# Altium integrated library Maxim Memory.IntLib: 366 symbols (part 2 of 7)
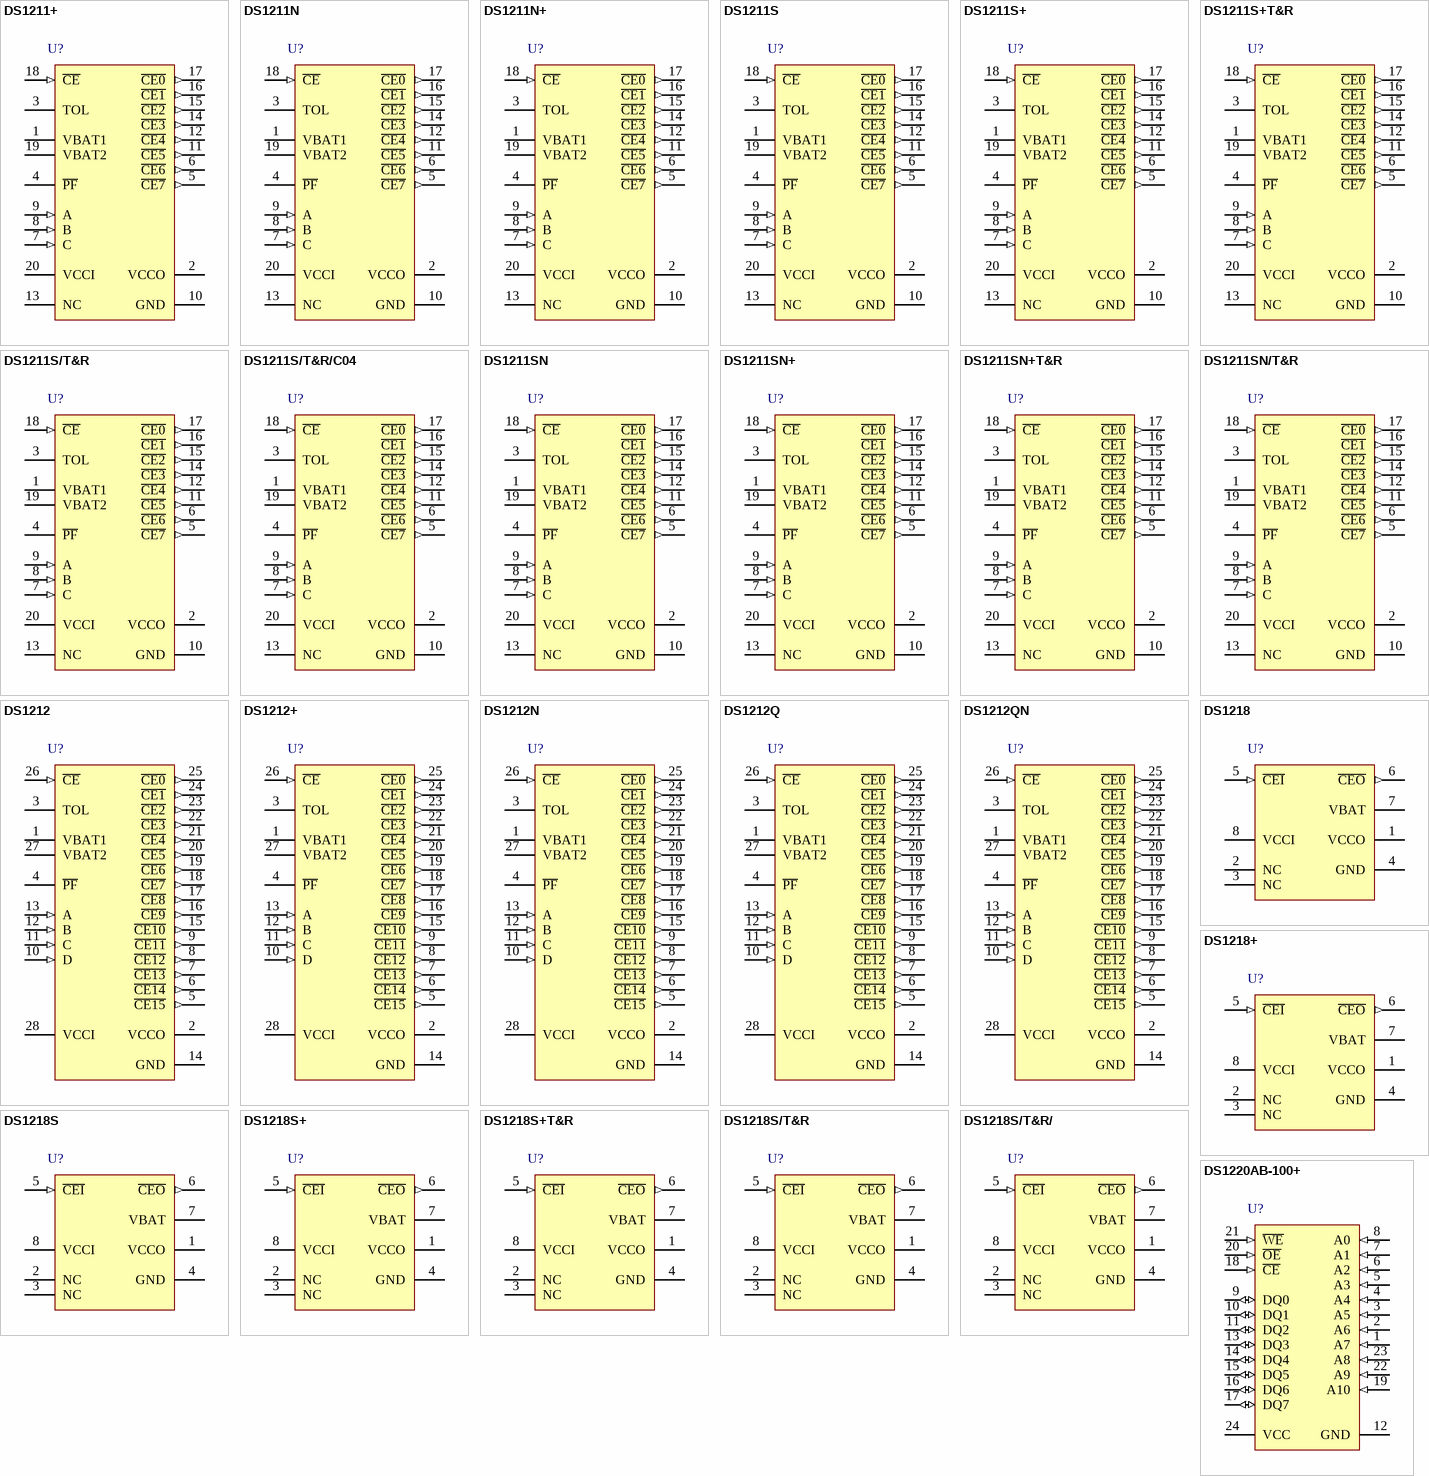
[diagram p14: symbols DS1211+ to DS1220AB-100+]

## DS1218S
designator U?
Nonvolatile Controller, 8-pin SOIC, 0° to + 70° C; DatasheetVersion: 1/11/1999; PackageVersion: revC, 2010; PackageReference: S8-2; PackageDescription: 8-Pin Small-Outline IC, Narrow (0.15in), 1.27 mm Pitch, SOIC (N); Code_JEDEC: MS-012-AA; Code_IPC: SOIC127P600-8; ComponentLink1Description: Manufacturer URL; ComponentLink1URL: www.maxim-ic.com; ComponentLink2Description: Datasheet; ComponentLink2URL: http://datasheets.maxim-ic.com/en/ds/DS1218.pdf
footprint S8-2_N (SOIC, 8-Leads, Body 4.9x3.9mm, Pitch 1.27mm, IPC Medium Density)
footprint S8-2_L (SOIC, 8-Leads, Body 4.9x3.9mm, Pitch 1.27mm, IPC High Density)
footprint S8-2_M (SOIC, 8-Leads, Body 4.9x3.9mm, Pitch 1.27mm, IPC Low Density)
pins: 1 VCCO (power), 2 NC, 3 NC, 4 GND (power), 5 ~{CEI} (in), 6 ~{CEO} (out), 7 VBAT, 8 VCCI (power)

## DS1218S+
designator U?
Nonvolatile Controller, 8-pin SOIC, 0° to + 70° C, Pb-Free; DatasheetVersion: 1/11/1999; PackageVersion: revC, 2010; PackageReference: S8+2; PackageDescription: 8-Pin Small-Outline IC, Narrow (0.15in), 1.27 mm Pitch, SOIC (N), Pb-Free; Code_JEDEC: MS-012-AA; Code_IPC: SOIC127P600-8; ComponentLink1Description: Manufacturer URL; ComponentLink1URL: www.maxim-ic.com; ComponentLink2Description: Datasheet; ComponentLink2URL: http://datasheets.maxim-ic.com/en/ds/DS1218.pdf
footprint S8+2_N (SOIC, 8-Leads, Body 4.9x3.9mm, Pitch 1.27mm, IPC Medium Density)
footprint S8+2_L (SOIC, 8-Leads, Body 4.9x3.9mm, Pitch 1.27mm, IPC High Density)
footprint S8+2_M (SOIC, 8-Leads, Body 4.9x3.9mm, Pitch 1.27mm, IPC Low Density)
pins: 1 VCCO (power), 2 NC, 3 NC, 4 GND (power), 5 ~{CEI} (in), 6 ~{CEO} (out), 7 VBAT, 8 VCCI (power)

## DS1218S+T&R
designator U?
Nonvolatile Controller, 8-pin SOIC, 0° to + 70° C, Pb-Free, Tape and Reel; DatasheetVersion: 1/11/1999; PackageVersion: revC, 2010; PackageReference: S8+2; PackageDescription: 8-Pin Small-Outline IC, Narrow (0.15in), 1.27 mm Pitch, SOIC (N), Pb-Free; Code_JEDEC: MS-012-AA; Code_IPC: SOIC127P600-8; ComponentLink1Description: Manufacturer URL; ComponentLink1URL: www.maxim-ic.com; ComponentLink2Description: Datasheet; ComponentLink2URL: http://datasheets.maxim-ic.com/en/ds/DS1218.pdf
footprint S8+2_N (SOIC, 8-Leads, Body 4.9x3.9mm, Pitch 1.27mm, IPC Medium Density)
footprint S8+2_L (SOIC, 8-Leads, Body 4.9x3.9mm, Pitch 1.27mm, IPC High Density)
footprint S8+2_M (SOIC, 8-Leads, Body 4.9x3.9mm, Pitch 1.27mm, IPC Low Density)
pins: 1 VCCO (power), 2 NC, 3 NC, 4 GND (power), 5 ~{CEI} (in), 6 ~{CEO} (out), 7 VBAT, 8 VCCI (power)

## DS1218S/T&R
designator U?
Nonvolatile Controller, 8-pin SOIC, 0° to + 70° C, Tape and Reel; DatasheetVersion: 1/11/1999; PackageVersion: revC, 2010; PackageReference: S8-2; PackageDescription: 8-Pin Small-Outline IC, Narrow (0.15in), 1.27 mm Pitch, SOIC (N); Code_JEDEC: MS-012-AA; Code_IPC: SOIC127P600-8; ComponentLink1Description: Manufacturer URL; ComponentLink1URL: www.maxim-ic.com; ComponentLink2Description: Datasheet; ComponentLink2URL: http://datasheets.maxim-ic.com/en/ds/DS1218.pdf
footprint S8-2_N (SOIC, 8-Leads, Body 4.9x3.9mm, Pitch 1.27mm, IPC Medium Density)
footprint S8-2_L (SOIC, 8-Leads, Body 4.9x3.9mm, Pitch 1.27mm, IPC High Density)
footprint S8-2_M (SOIC, 8-Leads, Body 4.9x3.9mm, Pitch 1.27mm, IPC Low Density)
pins: 1 VCCO (power), 2 NC, 3 NC, 4 GND (power), 5 ~{CEI} (in), 6 ~{CEO} (out), 7 VBAT, 8 VCCI (power)

## DS1218S/T&R/
designator U?
Nonvolatile Controller, 8-pin SOIC, 0° to + 70° C, Tape and Reel; DatasheetVersion: 1/11/1999; PackageVersion: revC, 2010; PackageReference: S8-2; PackageDescription: 8-Pin Small-Outline IC, Narrow (0.15in), 1.27 mm Pitch, SOIC (N); Code_JEDEC: MS-012-AA; Code_IPC: SOIC127P600-8; ComponentLink1Description: Manufacturer URL; ComponentLink1URL: www.maxim-ic.com; ComponentLink2Description: Datasheet; ComponentLink2URL: http://datasheets.maxim-ic.com/en/ds/DS1218.pdf
footprint S8-2_N (SOIC, 8-Leads, Body 4.9x3.9mm, Pitch 1.27mm, IPC Medium Density)
footprint S8-2_L (SOIC, 8-Leads, Body 4.9x3.9mm, Pitch 1.27mm, IPC High Density)
footprint S8-2_M (SOIC, 8-Leads, Body 4.9x3.9mm, Pitch 1.27mm, IPC Low Density)
pins: 1 VCCO (power), 2 NC, 3 NC, 4 GND (power), 5 ~{CEI} (in), 6 ~{CEO} (out), 7 VBAT, 8 VCCI (power)

## DS1220AB-100+
designator U?
16Kb Nonvolatile SRAM, +/-5% VCC Operating range, 24-pin EDIP, 0° to + 70° C, Pb-Free; DatasheetVersion: 1/10/2010; PackageVersion: revA, Feb-2003; PackageReference: MDT24+1; PackageDescription: 24-Pin Encapsulated Dual-In-Line Module, 2.54 mm Pitch, EDIP, Pb-Free; ComponentLink1Description: Manufacturer URL; ComponentLink1URL: www.maxim-ic.com; ComponentLink2Description: Datasheet; ComponentLink2URL: http://datasheets.maxim-ic.com/en/ds/DS1220AB-DS1220AD.pdf
footprint MDT24+1 (DIP; 24 Rectangular Pins, Body 33x17.8mm, Row Space 15.24mm, Pitch 2.54mm)
pins: 1 A7 (in), 2 A6 (in), 3 A5 (in), 4 A4 (in), 5 A3 (in), 6 A2 (in), 7 A1 (in), 8 A0 (in), 9 DQ0 (io), 10 DQ1 (io), 11 DQ2 (io), 12 GND (power), 13 DQ3 (io), 14 DQ4 (io), 15 DQ5 (io), 16 DQ6 (io), 17 DQ7 (io), 18 ~{CE} (in), 19 A10 (in), 20 ~{OE} (in), 21 ~{WE} (in), 22 A9 (in), 23 A8 (in), 24 VCC (power)

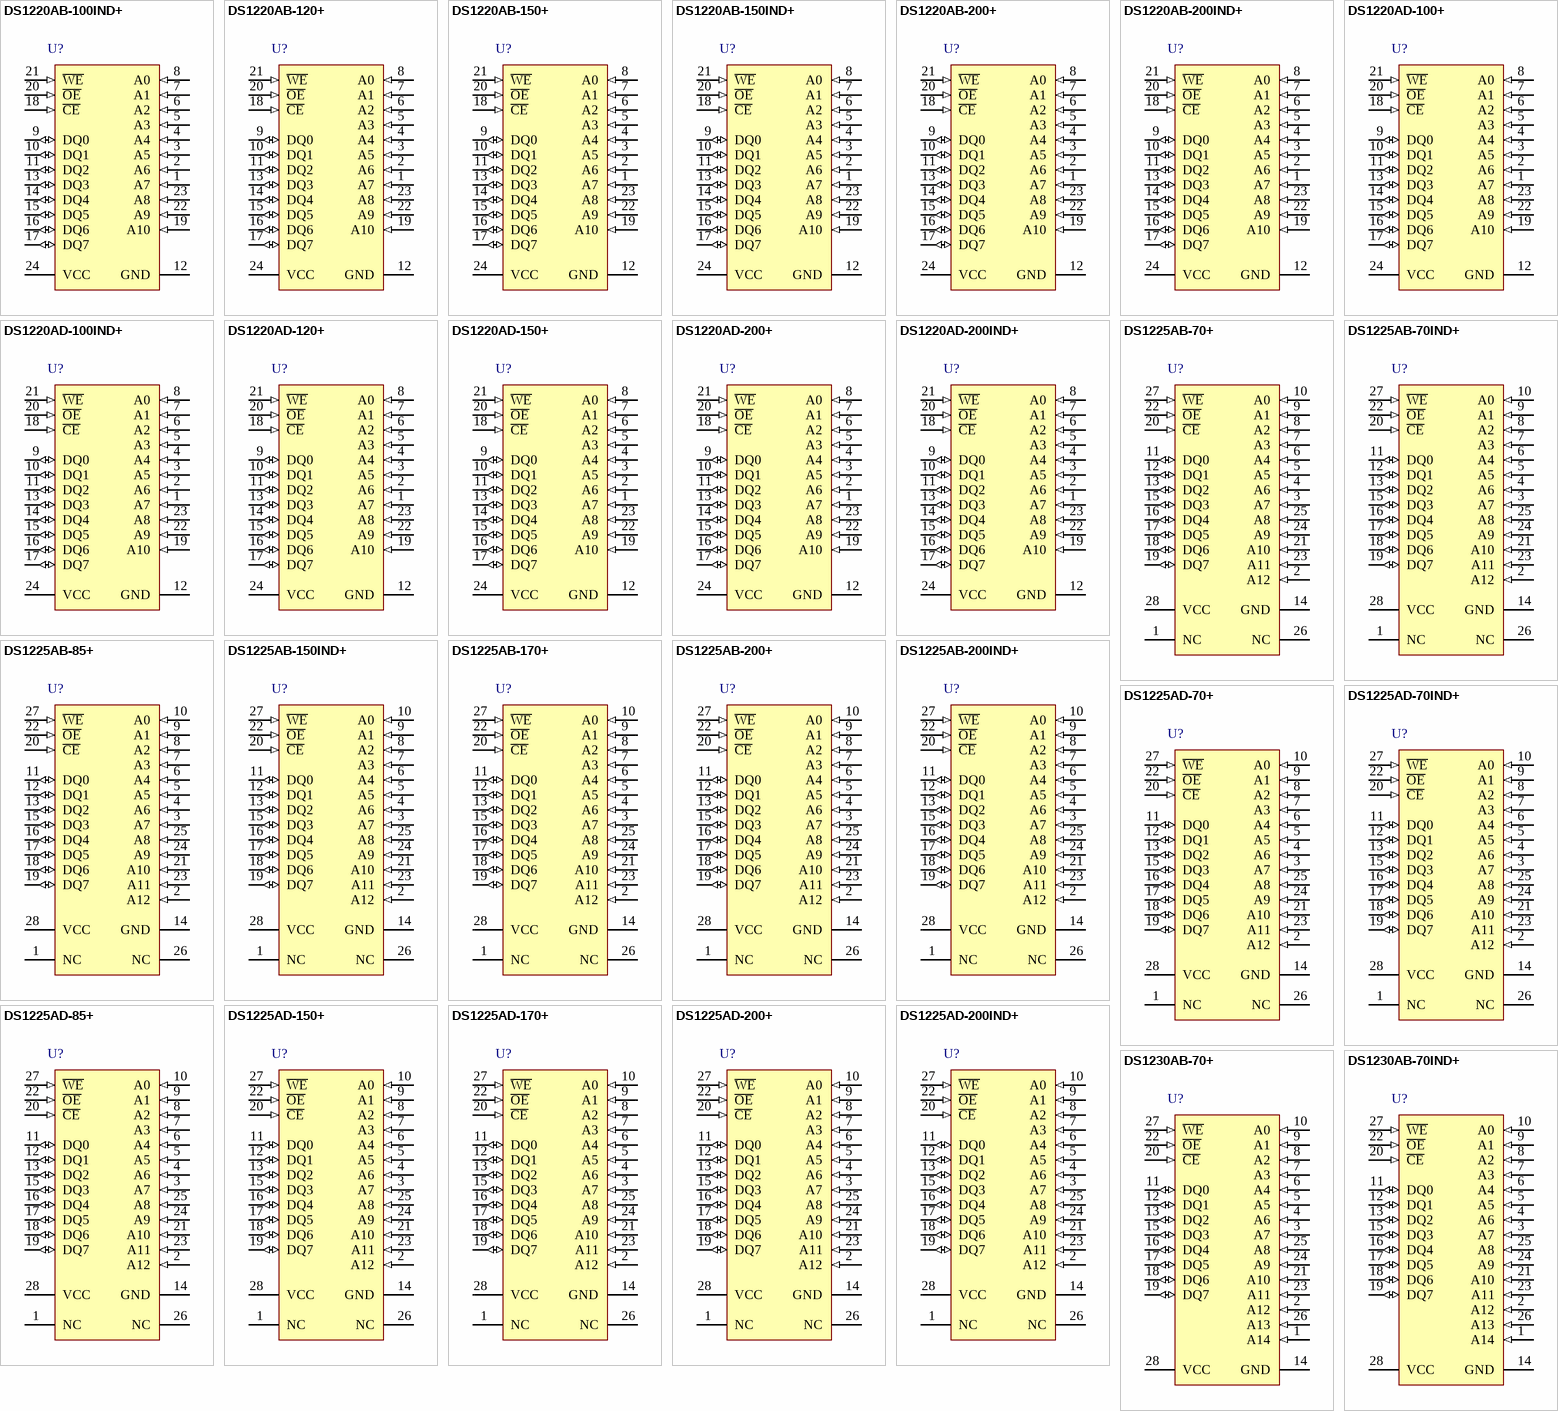
[diagram p2: symbols DS1220AB-100IND+ to DS1230AB-70IND+]

## DS1220AB-100IND+
designator U?
16Kb Nonvolatile SRAM, +/-5% VCC Operating range, 24-pin EDIP, -40° to + 85° C, Pb-Free; DatasheetVersion: 1/10/2010; PackageVersion: revA, Feb-2003; PackageReference: MDT24+1; PackageDescription: 24-Pin Encapsulated Dual-In-Line Module, 2.54 mm Pitch, EDIP, Pb-Free; ComponentLink1Description: Manufacturer URL; ComponentLink1URL: www.maxim-ic.com; ComponentLink2Description: Datasheet; ComponentLink2URL: http://datasheets.maxim-ic.com/en/ds/DS1220AB-DS1220AD.pdf
footprint MDT24+1 (DIP; 24 Rectangular Pins, Body 33x17.8mm, Row Space 15.24mm, Pitch 2.54mm)
pins: 1 A7 (in), 2 A6 (in), 3 A5 (in), 4 A4 (in), 5 A3 (in), 6 A2 (in), 7 A1 (in), 8 A0 (in), 9 DQ0 (io), 10 DQ1 (io), 11 DQ2 (io), 12 GND (power), 13 DQ3 (io), 14 DQ4 (io), 15 DQ5 (io), 16 DQ6 (io), 17 DQ7 (io), 18 ~{CE} (in), 19 A10 (in), 20 ~{OE} (in), 21 ~{WE} (in), 22 A9 (in), 23 A8 (in), 24 VCC (power)

## DS1220AB-120+
designator U?
16Kb Nonvolatile SRAM, +/-5% VCC Operating range, 24-pin EDIP, 0° to + 70° C, Pb-Free; DatasheetVersion: 1/10/2010; PackageVersion: revA, Feb-2003; PackageReference: MDT24+1; PackageDescription: 24-Pin Encapsulated Dual-In-Line Module, 2.54 mm Pitch, EDIP, Pb-Free; ComponentLink1Description: Manufacturer URL; ComponentLink1URL: www.maxim-ic.com; ComponentLink2Description: Datasheet; ComponentLink2URL: http://datasheets.maxim-ic.com/en/ds/DS1220AB-DS1220AD.pdf
footprint MDT24+1 (DIP; 24 Rectangular Pins, Body 33x17.8mm, Row Space 15.24mm, Pitch 2.54mm)
pins: 1 A7 (in), 2 A6 (in), 3 A5 (in), 4 A4 (in), 5 A3 (in), 6 A2 (in), 7 A1 (in), 8 A0 (in), 9 DQ0 (io), 10 DQ1 (io), 11 DQ2 (io), 12 GND (power), 13 DQ3 (io), 14 DQ4 (io), 15 DQ5 (io), 16 DQ6 (io), 17 DQ7 (io), 18 ~{CE} (in), 19 A10 (in), 20 ~{OE} (in), 21 ~{WE} (in), 22 A9 (in), 23 A8 (in), 24 VCC (power)

## DS1220AB-150+
designator U?
16Kb Nonvolatile SRAM, +/-5% VCC Operating range, 24-pin EDIP, 0° to + 70° C, Pb-Free; DatasheetVersion: 1/10/2010; PackageVersion: revA, Feb-2003; PackageReference: MDT24+1; PackageDescription: 24-Pin Encapsulated Dual-In-Line Module, 2.54 mm Pitch, EDIP, Pb-Free; ComponentLink1Description: Manufacturer URL; ComponentLink1URL: www.maxim-ic.com; ComponentLink2Description: Datasheet; ComponentLink2URL: http://datasheets.maxim-ic.com/en/ds/DS1220AB-DS1220AD.pdf
footprint MDT24+1 (DIP; 24 Rectangular Pins, Body 33x17.8mm, Row Space 15.24mm, Pitch 2.54mm)
pins: 1 A7 (in), 2 A6 (in), 3 A5 (in), 4 A4 (in), 5 A3 (in), 6 A2 (in), 7 A1 (in), 8 A0 (in), 9 DQ0 (io), 10 DQ1 (io), 11 DQ2 (io), 12 GND (power), 13 DQ3 (io), 14 DQ4 (io), 15 DQ5 (io), 16 DQ6 (io), 17 DQ7 (io), 18 ~{CE} (in), 19 A10 (in), 20 ~{OE} (in), 21 ~{WE} (in), 22 A9 (in), 23 A8 (in), 24 VCC (power)

## DS1220AB-150IND+
designator U?
16Kb Nonvolatile SRAM, +/-5% VCC Operating range, 24-pin EDIP, -40° to + 85° C, Pb-Free; DatasheetVersion: 1/10/2010; PackageVersion: revA, Feb-2003; PackageReference: MDT24+1; PackageDescription: 24-Pin Encapsulated Dual-In-Line Module, 2.54 mm Pitch, EDIP, Pb-Free; ComponentLink1Description: Manufacturer URL; ComponentLink1URL: www.maxim-ic.com; ComponentLink2Description: Datasheet; ComponentLink2URL: http://datasheets.maxim-ic.com/en/ds/DS1220AB-DS1220AD.pdf
footprint MDT24+1 (DIP; 24 Rectangular Pins, Body 33x17.8mm, Row Space 15.24mm, Pitch 2.54mm)
pins: 1 A7 (in), 2 A6 (in), 3 A5 (in), 4 A4 (in), 5 A3 (in), 6 A2 (in), 7 A1 (in), 8 A0 (in), 9 DQ0 (io), 10 DQ1 (io), 11 DQ2 (io), 12 GND (power), 13 DQ3 (io), 14 DQ4 (io), 15 DQ5 (io), 16 DQ6 (io), 17 DQ7 (io), 18 ~{CE} (in), 19 A10 (in), 20 ~{OE} (in), 21 ~{WE} (in), 22 A9 (in), 23 A8 (in), 24 VCC (power)

## DS1220AB-200+
designator U?
16Kb Nonvolatile SRAM, +/-5% VCC Operating range, 24-pin EDIP, 0° to + 70° C, Pb-Free; DatasheetVersion: 1/10/2010; PackageVersion: revA, Feb-2003; PackageReference: MDT24+1; PackageDescription: 24-Pin Encapsulated Dual-In-Line Module, 2.54 mm Pitch, EDIP, Pb-Free; ComponentLink1Description: Manufacturer URL; ComponentLink1URL: www.maxim-ic.com; ComponentLink2Description: Datasheet; ComponentLink2URL: http://datasheets.maxim-ic.com/en/ds/DS1220AB-DS1220AD.pdf
footprint MDT24+1 (DIP; 24 Rectangular Pins, Body 33x17.8mm, Row Space 15.24mm, Pitch 2.54mm)
pins: 1 A7 (in), 2 A6 (in), 3 A5 (in), 4 A4 (in), 5 A3 (in), 6 A2 (in), 7 A1 (in), 8 A0 (in), 9 DQ0 (io), 10 DQ1 (io), 11 DQ2 (io), 12 GND (power), 13 DQ3 (io), 14 DQ4 (io), 15 DQ5 (io), 16 DQ6 (io), 17 DQ7 (io), 18 ~{CE} (in), 19 A10 (in), 20 ~{OE} (in), 21 ~{WE} (in), 22 A9 (in), 23 A8 (in), 24 VCC (power)

## DS1220AB-200IND+
designator U?
16Kb Nonvolatile SRAM, +/-5% VCC Operating range, 24-pin EDIP, -40° to + 85° C, Pb-Free; DatasheetVersion: 1/10/2010; PackageVersion: revA, Feb-2003; PackageReference: MDT24+1; PackageDescription: 24-Pin Encapsulated Dual-In-Line Module, 2.54 mm Pitch, EDIP, Pb-Free; ComponentLink1Description: Manufacturer URL; ComponentLink1URL: www.maxim-ic.com; ComponentLink2Description: Datasheet; ComponentLink2URL: http://datasheets.maxim-ic.com/en/ds/DS1220AB-DS1220AD.pdf
footprint MDT24+1 (DIP; 24 Rectangular Pins, Body 33x17.8mm, Row Space 15.24mm, Pitch 2.54mm)
pins: 1 A7 (in), 2 A6 (in), 3 A5 (in), 4 A4 (in), 5 A3 (in), 6 A2 (in), 7 A1 (in), 8 A0 (in), 9 DQ0 (io), 10 DQ1 (io), 11 DQ2 (io), 12 GND (power), 13 DQ3 (io), 14 DQ4 (io), 15 DQ5 (io), 16 DQ6 (io), 17 DQ7 (io), 18 ~{CE} (in), 19 A10 (in), 20 ~{OE} (in), 21 ~{WE} (in), 22 A9 (in), 23 A8 (in), 24 VCC (power)

## DS1220AD-100+
designator U?
16Kb Nonvolatile SRAM, +/-10% VCC Operating range, 24-pin EDIP, 0° to + 70° C, Pb-Free; DatasheetVersion: 1/10/2010; PackageVersion: revA, Feb-2003; PackageReference: MDT24+1; PackageDescription: 24-Pin Encapsulated Dual-In-Line Module, 2.54 mm Pitch, EDIP, Pb-Free; ComponentLink1Description: Manufacturer URL; ComponentLink1URL: www.maxim-ic.com; ComponentLink2Description: Datasheet; ComponentLink2URL: http://datasheets.maxim-ic.com/en/ds/DS1220AB-DS1220AD.pdf
footprint MDT24+1 (DIP; 24 Rectangular Pins, Body 33x17.8mm, Row Space 15.24mm, Pitch 2.54mm)
pins: 1 A7 (in), 2 A6 (in), 3 A5 (in), 4 A4 (in), 5 A3 (in), 6 A2 (in), 7 A1 (in), 8 A0 (in), 9 DQ0 (io), 10 DQ1 (io), 11 DQ2 (io), 12 GND (power), 13 DQ3 (io), 14 DQ4 (io), 15 DQ5 (io), 16 DQ6 (io), 17 DQ7 (io), 18 ~{CE} (in), 19 A10 (in), 20 ~{OE} (in), 21 ~{WE} (in), 22 A9 (in), 23 A8 (in), 24 VCC (power)

## DS1220AD-100IND+
designator U?
16Kb Nonvolatile SRAM, +/-10% VCC Operating range, 24-pin EDIP, -40° to + 85° C, Pb-Free; DatasheetVersion: 1/10/2010; PackageVersion: revA, Feb-2003; PackageReference: MDT24+1; PackageDescription: 24-Pin Encapsulated Dual-In-Line Module, 2.54 mm Pitch, EDIP, Pb-Free; ComponentLink1Description: Manufacturer URL; ComponentLink1URL: www.maxim-ic.com; ComponentLink2Description: Datasheet; ComponentLink2URL: http://datasheets.maxim-ic.com/en/ds/DS1220AB-DS1220AD.pdf
footprint MDT24+1 (DIP; 24 Rectangular Pins, Body 33x17.8mm, Row Space 15.24mm, Pitch 2.54mm)
pins: 1 A7 (in), 2 A6 (in), 3 A5 (in), 4 A4 (in), 5 A3 (in), 6 A2 (in), 7 A1 (in), 8 A0 (in), 9 DQ0 (io), 10 DQ1 (io), 11 DQ2 (io), 12 GND (power), 13 DQ3 (io), 14 DQ4 (io), 15 DQ5 (io), 16 DQ6 (io), 17 DQ7 (io), 18 ~{CE} (in), 19 A10 (in), 20 ~{OE} (in), 21 ~{WE} (in), 22 A9 (in), 23 A8 (in), 24 VCC (power)

## DS1220AD-120+
designator U?
16Kb Nonvolatile SRAM, +/-10% VCC Operating range, 24-pin EDIP, 0° to + 70° C, Pb-Free; DatasheetVersion: 1/10/2010; PackageVersion: revA, Feb-2003; PackageReference: MDT24+1; PackageDescription: 24-Pin Encapsulated Dual-In-Line Module, 2.54 mm Pitch, EDIP, Pb-Free; ComponentLink1Description: Manufacturer URL; ComponentLink1URL: www.maxim-ic.com; ComponentLink2Description: Datasheet; ComponentLink2URL: http://datasheets.maxim-ic.com/en/ds/DS1220AB-DS1220AD.pdf
footprint MDT24+1 (DIP; 24 Rectangular Pins, Body 33x17.8mm, Row Space 15.24mm, Pitch 2.54mm)
pins: 1 A7 (in), 2 A6 (in), 3 A5 (in), 4 A4 (in), 5 A3 (in), 6 A2 (in), 7 A1 (in), 8 A0 (in), 9 DQ0 (io), 10 DQ1 (io), 11 DQ2 (io), 12 GND (power), 13 DQ3 (io), 14 DQ4 (io), 15 DQ5 (io), 16 DQ6 (io), 17 DQ7 (io), 18 ~{CE} (in), 19 A10 (in), 20 ~{OE} (in), 21 ~{WE} (in), 22 A9 (in), 23 A8 (in), 24 VCC (power)

## DS1220AD-150+
designator U?
16Kb Nonvolatile SRAM, +/-10% VCC Operating range, 24-pin EDIP, 0° to + 70° C, Pb-Free; DatasheetVersion: 1/10/2010; PackageVersion: revA, Feb-2003; PackageReference: MDT24+1; PackageDescription: 24-Pin Encapsulated Dual-In-Line Module, 2.54 mm Pitch, EDIP, Pb-Free; ComponentLink1Description: Manufacturer URL; ComponentLink1URL: www.maxim-ic.com; ComponentLink2Description: Datasheet; ComponentLink2URL: http://datasheets.maxim-ic.com/en/ds/DS1220AB-DS1220AD.pdf
footprint MDT24+1 (DIP; 24 Rectangular Pins, Body 33x17.8mm, Row Space 15.24mm, Pitch 2.54mm)
pins: 1 A7 (in), 2 A6 (in), 3 A5 (in), 4 A4 (in), 5 A3 (in), 6 A2 (in), 7 A1 (in), 8 A0 (in), 9 DQ0 (io), 10 DQ1 (io), 11 DQ2 (io), 12 GND (power), 13 DQ3 (io), 14 DQ4 (io), 15 DQ5 (io), 16 DQ6 (io), 17 DQ7 (io), 18 ~{CE} (in), 19 A10 (in), 20 ~{OE} (in), 21 ~{WE} (in), 22 A9 (in), 23 A8 (in), 24 VCC (power)

## DS1220AD-200+
designator U?
16Kb Nonvolatile SRAM, +/-10% VCC Operating range, 24-pin EDIP, 0° to + 70° C, Pb-Free; DatasheetVersion: 1/10/2010; PackageVersion: revA, Feb-2003; PackageReference: MDT24+1; PackageDescription: 24-Pin Encapsulated Dual-In-Line Module, 2.54 mm Pitch, EDIP, Pb-Free; ComponentLink1Description: Manufacturer URL; ComponentLink1URL: www.maxim-ic.com; ComponentLink2Description: Datasheet; ComponentLink2URL: http://datasheets.maxim-ic.com/en/ds/DS1220AB-DS1220AD.pdf
footprint MDT24+1 (DIP; 24 Rectangular Pins, Body 33x17.8mm, Row Space 15.24mm, Pitch 2.54mm)
pins: 1 A7 (in), 2 A6 (in), 3 A5 (in), 4 A4 (in), 5 A3 (in), 6 A2 (in), 7 A1 (in), 8 A0 (in), 9 DQ0 (io), 10 DQ1 (io), 11 DQ2 (io), 12 GND (power), 13 DQ3 (io), 14 DQ4 (io), 15 DQ5 (io), 16 DQ6 (io), 17 DQ7 (io), 18 ~{CE} (in), 19 A10 (in), 20 ~{OE} (in), 21 ~{WE} (in), 22 A9 (in), 23 A8 (in), 24 VCC (power)

## DS1220AD-200IND+
designator U?
16Kb Nonvolatile SRAM, +/-10% VCC Operating range, 24-pin EDIP, -40° to + 85° C, Pb-Free; DatasheetVersion: 1/10/2010; PackageVersion: revA, Feb-2003; PackageReference: MDT24+1; PackageDescription: 24-Pin Encapsulated Dual-In-Line Module, 2.54 mm Pitch, EDIP, Pb-Free; ComponentLink1Description: Manufacturer URL; ComponentLink1URL: www.maxim-ic.com; ComponentLink2Description: Datasheet; ComponentLink2URL: http://datasheets.maxim-ic.com/en/ds/DS1220AB-DS1220AD.pdf
footprint MDT24+1 (DIP; 24 Rectangular Pins, Body 33x17.8mm, Row Space 15.24mm, Pitch 2.54mm)
pins: 1 A7 (in), 2 A6 (in), 3 A5 (in), 4 A4 (in), 5 A3 (in), 6 A2 (in), 7 A1 (in), 8 A0 (in), 9 DQ0 (io), 10 DQ1 (io), 11 DQ2 (io), 12 GND (power), 13 DQ3 (io), 14 DQ4 (io), 15 DQ5 (io), 16 DQ6 (io), 17 DQ7 (io), 18 ~{CE} (in), 19 A10 (in), 20 ~{OE} (in), 21 ~{WE} (in), 22 A9 (in), 23 A8 (in), 24 VCC (power)

## DS1225AB-70+
designator U?
64Kb Nonvolatile SRAM, +/-5% VCC Operating range, 28-pin EDIP, 0° to + 70° C, Pb-Free; DatasheetVersion: 1/11/2010; PackageVersion: revA, Feb-2003; PackageReference: MDT28+2; PackageDescription: 28-Pin Encapsulated Dual-In-Line Module, 2.54 mm Pitch, EDIP, 720-mil extended, Pb-Free; ComponentLink1Description: Manufacturer URL; ComponentLink1URL: www.maxim-ic.com; ComponentLink2Description: Datasheet; ComponentLink2URL: http://datasheets.maxim-ic.com/en/ds/DS1225AB-DS1225AD.pdf
footprint MDT28+2 (DIP; 28 Rectangular Pins, Body 38.2x17.8mm, Row Space 15.24mm, Pitch 2.54mm)
pins: 1 NC, 2 A12 (in), 3 A7 (in), 4 A6 (in), 5 A5 (in), 6 A4 (in), 7 A3 (in), 8 A2 (in), 9 A1 (in), 10 A0 (in), 11 DQ0 (io), 12 DQ1 (io), 13 DQ2 (io), 14 GND (power), 15 DQ3 (io), 16 DQ4 (io), 17 DQ5 (io), 18 DQ6 (io), 19 DQ7 (io), 20 ~{CE} (in), 21 A10 (in), 22 ~{OE} (in), 23 A11 (in), 24 A9 (in), 25 A8 (in), 26 NC, 27 ~{WE} (in), 28 VCC (power)

## DS1225AB-70IND+
designator U?
64Kb Nonvolatile SRAM, +/-5% VCC Operating range, 28-pin EDIP, -40° to + 85° C, Pb-Free; DatasheetVersion: 1/11/2010; PackageVersion: revA, Feb-2003; PackageReference: MDT28+2; PackageDescription: 28-Pin Encapsulated Dual-In-Line Module, 2.54 mm Pitch, EDIP, 720-mil extended, Pb-Free; ComponentLink1Description: Manufacturer URL; ComponentLink1URL: www.maxim-ic.com; ComponentLink2Description: Datasheet; ComponentLink2URL: http://datasheets.maxim-ic.com/en/ds/DS1225AB-DS1225AD.pdf
footprint MDT28+2 (DIP; 28 Rectangular Pins, Body 38.2x17.8mm, Row Space 15.24mm, Pitch 2.54mm)
pins: 1 NC, 2 A12 (in), 3 A7 (in), 4 A6 (in), 5 A5 (in), 6 A4 (in), 7 A3 (in), 8 A2 (in), 9 A1 (in), 10 A0 (in), 11 DQ0 (io), 12 DQ1 (io), 13 DQ2 (io), 14 GND (power), 15 DQ3 (io), 16 DQ4 (io), 17 DQ5 (io), 18 DQ6 (io), 19 DQ7 (io), 20 ~{CE} (in), 21 A10 (in), 22 ~{OE} (in), 23 A11 (in), 24 A9 (in), 25 A8 (in), 26 NC, 27 ~{WE} (in), 28 VCC (power)

## DS1225AB-85+
designator U?
64Kb Nonvolatile SRAM, +/-5% VCC Operating range, 28-pin EDIP, 0° to + 70° C, Pb-Free; DatasheetVersion: 1/11/2010; PackageVersion: revA, Feb-2003; PackageReference: MDT28+2; PackageDescription: 28-Pin Encapsulated Dual-In-Line Module, 2.54 mm Pitch, EDIP, 720-mil extended, Pb-Free; ComponentLink1Description: Manufacturer URL; ComponentLink1URL: www.maxim-ic.com; ComponentLink2Description: Datasheet; ComponentLink2URL: http://datasheets.maxim-ic.com/en/ds/DS1225AB-DS1225AD.pdf
footprint MDT28+2 (DIP; 28 Rectangular Pins, Body 38.2x17.8mm, Row Space 15.24mm, Pitch 2.54mm)
pins: 1 NC, 2 A12 (in), 3 A7 (in), 4 A6 (in), 5 A5 (in), 6 A4 (in), 7 A3 (in), 8 A2 (in), 9 A1 (in), 10 A0 (in), 11 DQ0 (io), 12 DQ1 (io), 13 DQ2 (io), 14 GND (power), 15 DQ3 (io), 16 DQ4 (io), 17 DQ5 (io), 18 DQ6 (io), 19 DQ7 (io), 20 ~{CE} (in), 21 A10 (in), 22 ~{OE} (in), 23 A11 (in), 24 A9 (in), 25 A8 (in), 26 NC, 27 ~{WE} (in), 28 VCC (power)

## DS1225AB-150IND+
designator U?
64Kb Nonvolatile SRAM, +/-5% VCC Operating range, 28-pin EDIP, -40° to + 85° C, Pb-Free; DatasheetVersion: 1/11/2010; PackageVersion: revA, Feb-2003; PackageReference: MDT28+2; PackageDescription: 28-Pin Encapsulated Dual-In-Line Module, 2.54 mm Pitch, EDIP, 720-mil extended, Pb-Free; ComponentLink1Description: Manufacturer URL; ComponentLink1URL: www.maxim-ic.com; ComponentLink2Description: Datasheet; ComponentLink2URL: http://datasheets.maxim-ic.com/en/ds/DS1225AB-DS1225AD.pdf
footprint MDT28+2 (DIP; 28 Rectangular Pins, Body 38.2x17.8mm, Row Space 15.24mm, Pitch 2.54mm)
pins: 1 NC, 2 A12 (in), 3 A7 (in), 4 A6 (in), 5 A5 (in), 6 A4 (in), 7 A3 (in), 8 A2 (in), 9 A1 (in), 10 A0 (in), 11 DQ0 (io), 12 DQ1 (io), 13 DQ2 (io), 14 GND (power), 15 DQ3 (io), 16 DQ4 (io), 17 DQ5 (io), 18 DQ6 (io), 19 DQ7 (io), 20 ~{CE} (in), 21 A10 (in), 22 ~{OE} (in), 23 A11 (in), 24 A9 (in), 25 A8 (in), 26 NC, 27 ~{WE} (in), 28 VCC (power)

## DS1225AB-170+
designator U?
64Kb Nonvolatile SRAM, +/-5% VCC Operating range, 28-pin EDIP, 0° to + 70° C, Pb-Free; DatasheetVersion: 1/11/2010; PackageVersion: revA, Feb-2003; PackageReference: MDT28+2; PackageDescription: 28-Pin Encapsulated Dual-In-Line Module, 2.54 mm Pitch, EDIP, 720-mil extended, Pb-Free; ComponentLink1Description: Manufacturer URL; ComponentLink1URL: www.maxim-ic.com; ComponentLink2Description: Datasheet; ComponentLink2URL: http://datasheets.maxim-ic.com/en/ds/DS1225AB-DS1225AD.pdf
footprint MDT28+2 (DIP; 28 Rectangular Pins, Body 38.2x17.8mm, Row Space 15.24mm, Pitch 2.54mm)
pins: 1 NC, 2 A12 (in), 3 A7 (in), 4 A6 (in), 5 A5 (in), 6 A4 (in), 7 A3 (in), 8 A2 (in), 9 A1 (in), 10 A0 (in), 11 DQ0 (io), 12 DQ1 (io), 13 DQ2 (io), 14 GND (power), 15 DQ3 (io), 16 DQ4 (io), 17 DQ5 (io), 18 DQ6 (io), 19 DQ7 (io), 20 ~{CE} (in), 21 A10 (in), 22 ~{OE} (in), 23 A11 (in), 24 A9 (in), 25 A8 (in), 26 NC, 27 ~{WE} (in), 28 VCC (power)

## DS1225AB-200+
designator U?
64Kb Nonvolatile SRAM, +/-5% VCC Operating range, 28-pin EDIP, 0° to + 70° C, Pb-Free; DatasheetVersion: 1/11/2010; PackageVersion: revA, Feb-2003; PackageReference: MDT28+2; PackageDescription: 28-Pin Encapsulated Dual-In-Line Module, 2.54 mm Pitch, EDIP, 720-mil extended, Pb-Free; ComponentLink1Description: Manufacturer URL; ComponentLink1URL: www.maxim-ic.com; ComponentLink2Description: Datasheet; ComponentLink2URL: http://datasheets.maxim-ic.com/en/ds/DS1225AB-DS1225AD.pdf
footprint MDT28+2 (DIP; 28 Rectangular Pins, Body 38.2x17.8mm, Row Space 15.24mm, Pitch 2.54mm)
pins: 1 NC, 2 A12 (in), 3 A7 (in), 4 A6 (in), 5 A5 (in), 6 A4 (in), 7 A3 (in), 8 A2 (in), 9 A1 (in), 10 A0 (in), 11 DQ0 (io), 12 DQ1 (io), 13 DQ2 (io), 14 GND (power), 15 DQ3 (io), 16 DQ4 (io), 17 DQ5 (io), 18 DQ6 (io), 19 DQ7 (io), 20 ~{CE} (in), 21 A10 (in), 22 ~{OE} (in), 23 A11 (in), 24 A9 (in), 25 A8 (in), 26 NC, 27 ~{WE} (in), 28 VCC (power)

## DS1225AB-200IND+
designator U?
64Kb Nonvolatile SRAM, +/-5% VCC Operating range, 28-pin EDIP, -40° to + 85° C, Pb-Free; DatasheetVersion: 1/11/2010; PackageVersion: revA, Feb-2003; PackageReference: MDT28+2; PackageDescription: 28-Pin Encapsulated Dual-In-Line Module, 2.54 mm Pitch, EDIP, 720-mil extended, Pb-Free; ComponentLink1Description: Manufacturer URL; ComponentLink1URL: www.maxim-ic.com; ComponentLink2Description: Datasheet; ComponentLink2URL: http://datasheets.maxim-ic.com/en/ds/DS1225AB-DS1225AD.pdf
footprint MDT28+2 (DIP; 28 Rectangular Pins, Body 38.2x17.8mm, Row Space 15.24mm, Pitch 2.54mm)
pins: 1 NC, 2 A12 (in), 3 A7 (in), 4 A6 (in), 5 A5 (in), 6 A4 (in), 7 A3 (in), 8 A2 (in), 9 A1 (in), 10 A0 (in), 11 DQ0 (io), 12 DQ1 (io), 13 DQ2 (io), 14 GND (power), 15 DQ3 (io), 16 DQ4 (io), 17 DQ5 (io), 18 DQ6 (io), 19 DQ7 (io), 20 ~{CE} (in), 21 A10 (in), 22 ~{OE} (in), 23 A11 (in), 24 A9 (in), 25 A8 (in), 26 NC, 27 ~{WE} (in), 28 VCC (power)

## DS1225AD-70+
designator U?
64Kb Nonvolatile SRAM, +/-10% VCC Operating range, 28-pin EDIP, 0° to + 70° C, Pb-Free; DatasheetVersion: 1/11/2010; PackageVersion: revA, Feb-2003; PackageReference: MDT28+2; PackageDescription: 28-Pin Encapsulated Dual-In-Line Module, 2.54 mm Pitch, EDIP, 720-mil extended, Pb-Free; ComponentLink1Description: Manufacturer URL; ComponentLink1URL: www.maxim-ic.com; ComponentLink2Description: Datasheet; ComponentLink2URL: http://datasheets.maxim-ic.com/en/ds/DS1225AB-DS1225AD.pdf
footprint MDT28+2 (DIP; 28 Rectangular Pins, Body 38.2x17.8mm, Row Space 15.24mm, Pitch 2.54mm)
pins: 1 NC, 2 A12 (in), 3 A7 (in), 4 A6 (in), 5 A5 (in), 6 A4 (in), 7 A3 (in), 8 A2 (in), 9 A1 (in), 10 A0 (in), 11 DQ0 (io), 12 DQ1 (io), 13 DQ2 (io), 14 GND (power), 15 DQ3 (io), 16 DQ4 (io), 17 DQ5 (io), 18 DQ6 (io), 19 DQ7 (io), 20 ~{CE} (in), 21 A10 (in), 22 ~{OE} (in), 23 A11 (in), 24 A9 (in), 25 A8 (in), 26 NC, 27 ~{WE} (in), 28 VCC (power)

## DS1225AD-70IND+
designator U?
64Kb Nonvolatile SRAM, +/-10% VCC Operating range, 28-pin EDIP, -40° to + 85° C, Pb-Free; DatasheetVersion: 1/11/2010; PackageVersion: revA, Feb-2003; PackageReference: MDT28+2; PackageDescription: 28-Pin Encapsulated Dual-In-Line Module, 2.54 mm Pitch, EDIP, 720-mil extended, Pb-Free; ComponentLink1Description: Manufacturer URL; ComponentLink1URL: www.maxim-ic.com; ComponentLink2Description: Datasheet; ComponentLink2URL: http://datasheets.maxim-ic.com/en/ds/DS1225AB-DS1225AD.pdf
footprint MDT28+2 (DIP; 28 Rectangular Pins, Body 38.2x17.8mm, Row Space 15.24mm, Pitch 2.54mm)
pins: 1 NC, 2 A12 (in), 3 A7 (in), 4 A6 (in), 5 A5 (in), 6 A4 (in), 7 A3 (in), 8 A2 (in), 9 A1 (in), 10 A0 (in), 11 DQ0 (io), 12 DQ1 (io), 13 DQ2 (io), 14 GND (power), 15 DQ3 (io), 16 DQ4 (io), 17 DQ5 (io), 18 DQ6 (io), 19 DQ7 (io), 20 ~{CE} (in), 21 A10 (in), 22 ~{OE} (in), 23 A11 (in), 24 A9 (in), 25 A8 (in), 26 NC, 27 ~{WE} (in), 28 VCC (power)

## DS1225AD-85+
designator U?
64Kb Nonvolatile SRAM, +/-10% VCC Operating range, 28-pin EDIP, 0° to + 70° C, Pb-Free; DatasheetVersion: 1/11/2010; PackageVersion: revA, Feb-2003; PackageReference: MDT28+2; PackageDescription: 28-Pin Encapsulated Dual-In-Line Module, 2.54 mm Pitch, EDIP, 720-mil extended, Pb-Free; ComponentLink1Description: Manufacturer URL; ComponentLink1URL: www.maxim-ic.com; ComponentLink2Description: Datasheet; ComponentLink2URL: http://datasheets.maxim-ic.com/en/ds/DS1225AB-DS1225AD.pdf
footprint MDT28+2 (DIP; 28 Rectangular Pins, Body 38.2x17.8mm, Row Space 15.24mm, Pitch 2.54mm)
pins: 1 NC, 2 A12 (in), 3 A7 (in), 4 A6 (in), 5 A5 (in), 6 A4 (in), 7 A3 (in), 8 A2 (in), 9 A1 (in), 10 A0 (in), 11 DQ0 (io), 12 DQ1 (io), 13 DQ2 (io), 14 GND (power), 15 DQ3 (io), 16 DQ4 (io), 17 DQ5 (io), 18 DQ6 (io), 19 DQ7 (io), 20 ~{CE} (in), 21 A10 (in), 22 ~{OE} (in), 23 A11 (in), 24 A9 (in), 25 A8 (in), 26 NC, 27 ~{WE} (in), 28 VCC (power)

## DS1225AD-150+
designator U?
64Kb Nonvolatile SRAM, +/-10% VCC Operating range, 28-pin EDIP, 0° to + 70° C, Pb-Free; DatasheetVersion: 1/11/2010; PackageVersion: revA, Feb-2003; PackageReference: MDT28+2; PackageDescription: 28-Pin Encapsulated Dual-In-Line Module, 2.54 mm Pitch, EDIP, 720-mil extended, Pb-Free; ComponentLink1Description: Manufacturer URL; ComponentLink1URL: www.maxim-ic.com; ComponentLink2Description: Datasheet; ComponentLink2URL: http://datasheets.maxim-ic.com/en/ds/DS1225AB-DS1225AD.pdf
footprint MDT28+2 (DIP; 28 Rectangular Pins, Body 38.2x17.8mm, Row Space 15.24mm, Pitch 2.54mm)
pins: 1 NC, 2 A12 (in), 3 A7 (in), 4 A6 (in), 5 A5 (in), 6 A4 (in), 7 A3 (in), 8 A2 (in), 9 A1 (in), 10 A0 (in), 11 DQ0 (io), 12 DQ1 (io), 13 DQ2 (io), 14 GND (power), 15 DQ3 (io), 16 DQ4 (io), 17 DQ5 (io), 18 DQ6 (io), 19 DQ7 (io), 20 ~{CE} (in), 21 A10 (in), 22 ~{OE} (in), 23 A11 (in), 24 A9 (in), 25 A8 (in), 26 NC, 27 ~{WE} (in), 28 VCC (power)

## DS1225AD-170+
designator U?
64Kb Nonvolatile SRAM, +/-10% VCC Operating range, 28-pin EDIP, 0° to + 70° C, Pb-Free; DatasheetVersion: 1/11/2010; PackageVersion: revA, Feb-2003; PackageReference: MDT28+2; PackageDescription: 28-Pin Encapsulated Dual-In-Line Module, 2.54 mm Pitch, EDIP, 720-mil extended, Pb-Free; ComponentLink1Description: Manufacturer URL; ComponentLink1URL: www.maxim-ic.com; ComponentLink2Description: Datasheet; ComponentLink2URL: http://datasheets.maxim-ic.com/en/ds/DS1225AB-DS1225AD.pdf
footprint MDT28+2 (DIP; 28 Rectangular Pins, Body 38.2x17.8mm, Row Space 15.24mm, Pitch 2.54mm)
pins: 1 NC, 2 A12 (in), 3 A7 (in), 4 A6 (in), 5 A5 (in), 6 A4 (in), 7 A3 (in), 8 A2 (in), 9 A1 (in), 10 A0 (in), 11 DQ0 (io), 12 DQ1 (io), 13 DQ2 (io), 14 GND (power), 15 DQ3 (io), 16 DQ4 (io), 17 DQ5 (io), 18 DQ6 (io), 19 DQ7 (io), 20 ~{CE} (in), 21 A10 (in), 22 ~{OE} (in), 23 A11 (in), 24 A9 (in), 25 A8 (in), 26 NC, 27 ~{WE} (in), 28 VCC (power)

## DS1225AD-200+
designator U?
64Kb Nonvolatile SRAM, +/-10% VCC Operating range, 28-pin EDIP, 0° to + 70° C, Pb-Free; DatasheetVersion: 1/11/2010; PackageVersion: revA, Feb-2003; PackageReference: MDT28+2; PackageDescription: 28-Pin Encapsulated Dual-In-Line Module, 2.54 mm Pitch, EDIP, 720-mil extended, Pb-Free; ComponentLink1Description: Manufacturer URL; ComponentLink1URL: www.maxim-ic.com; ComponentLink2Description: Datasheet; ComponentLink2URL: http://datasheets.maxim-ic.com/en/ds/DS1225AB-DS1225AD.pdf
footprint MDT28+2 (DIP; 28 Rectangular Pins, Body 38.2x17.8mm, Row Space 15.24mm, Pitch 2.54mm)
pins: 1 NC, 2 A12 (in), 3 A7 (in), 4 A6 (in), 5 A5 (in), 6 A4 (in), 7 A3 (in), 8 A2 (in), 9 A1 (in), 10 A0 (in), 11 DQ0 (io), 12 DQ1 (io), 13 DQ2 (io), 14 GND (power), 15 DQ3 (io), 16 DQ4 (io), 17 DQ5 (io), 18 DQ6 (io), 19 DQ7 (io), 20 ~{CE} (in), 21 A10 (in), 22 ~{OE} (in), 23 A11 (in), 24 A9 (in), 25 A8 (in), 26 NC, 27 ~{WE} (in), 28 VCC (power)

## DS1225AD-200IND+
designator U?
64Kb Nonvolatile SRAM, +/-10% VCC Operating range, 28-pin EDIP, -40° to + 85° C, Pb-Free; DatasheetVersion: 1/11/2010; PackageVersion: revA, Feb-2003; PackageReference: MDT28+2; PackageDescription: 28-Pin Encapsulated Dual-In-Line Module, 2.54 mm Pitch, EDIP, 720-mil extended, Pb-Free; ComponentLink1Description: Manufacturer URL; ComponentLink1URL: www.maxim-ic.com; ComponentLink2Description: Datasheet; ComponentLink2URL: http://datasheets.maxim-ic.com/en/ds/DS1225AB-DS1225AD.pdf
footprint MDT28+2 (DIP; 28 Rectangular Pins, Body 38.2x17.8mm, Row Space 15.24mm, Pitch 2.54mm)
pins: 1 NC, 2 A12 (in), 3 A7 (in), 4 A6 (in), 5 A5 (in), 6 A4 (in), 7 A3 (in), 8 A2 (in), 9 A1 (in), 10 A0 (in), 11 DQ0 (io), 12 DQ1 (io), 13 DQ2 (io), 14 GND (power), 15 DQ3 (io), 16 DQ4 (io), 17 DQ5 (io), 18 DQ6 (io), 19 DQ7 (io), 20 ~{CE} (in), 21 A10 (in), 22 ~{OE} (in), 23 A11 (in), 24 A9 (in), 25 A8 (in), 26 NC, 27 ~{WE} (in), 28 VCC (power)

## DS1230AB-70+
designator U?
256Kb Nonvolatile SRAM, +/-5% VCC Operating range, 28-pin EDIP, 0° to + 70° C, Pb-Free; DatasheetVersion: 1/11/2010; PackageVersion: revA, Feb-2003; PackageReference: MDT28+3; PackageDescription: 28-Pin Encapsulated Dual-In-Line Module, 2.54 mm Pitch, EDIP, 740-mil extended, Pb-Free; ComponentLink1Description: Manufacturer URL; ComponentLink1URL: www.maxim-ic.com; ComponentLink2Description: Datasheet; ComponentLink2URL: http://datasheets.maxim-ic.com/en/ds/DS1230AB-DS1230Y.pdf
footprint MDT28+3 (DIP; 28 Rectangular Pins, Body 38.2x18.5mm, Row Space 15.24mm, Pitch 2.54mm)
pins: 1 A14 (in), 2 A12 (in), 3 A7 (in), 4 A6 (in), 5 A5 (in), 6 A4 (in), 7 A3 (in), 8 A2 (in), 9 A1 (in), 10 A0 (in), 11 DQ0 (io), 12 DQ1 (io), 13 DQ2 (io), 14 GND (power), 15 DQ3 (io), 16 DQ4 (io), 17 DQ5 (io), 18 DQ6 (io), 19 DQ7 (io), 20 ~{CE} (in), 21 A10 (in), 22 ~{OE} (in), 23 A11 (in), 24 A9 (in), 25 A8 (in), 26 A13 (in), 27 ~{WE} (in), 28 VCC (power)

## DS1230AB-70IND+
designator U?
256Kb Nonvolatile SRAM, +/-5% VCC Operating range, 28-pin EDIP, -40° to + 85° C, Pb-Free; DatasheetVersion: 1/11/2010; PackageVersion: revA, Feb-2003; PackageReference: MDT28+3; PackageDescription: 28-Pin Encapsulated Dual-In-Line Module, 2.54 mm Pitch, EDIP, 740-mil extended, Pb-Free; ComponentLink1Description: Manufacturer URL; ComponentLink1URL: www.maxim-ic.com; ComponentLink2Description: Datasheet; ComponentLink2URL: http://datasheets.maxim-ic.com/en/ds/DS1230AB-DS1230Y.pdf
footprint MDT28+3 (DIP; 28 Rectangular Pins, Body 38.2x18.5mm, Row Space 15.24mm, Pitch 2.54mm)
pins: 1 A14 (in), 2 A12 (in), 3 A7 (in), 4 A6 (in), 5 A5 (in), 6 A4 (in), 7 A3 (in), 8 A2 (in), 9 A1 (in), 10 A0 (in), 11 DQ0 (io), 12 DQ1 (io), 13 DQ2 (io), 14 GND (power), 15 DQ3 (io), 16 DQ4 (io), 17 DQ5 (io), 18 DQ6 (io), 19 DQ7 (io), 20 ~{CE} (in), 21 A10 (in), 22 ~{OE} (in), 23 A11 (in), 24 A9 (in), 25 A8 (in), 26 A13 (in), 27 ~{WE} (in), 28 VCC (power)

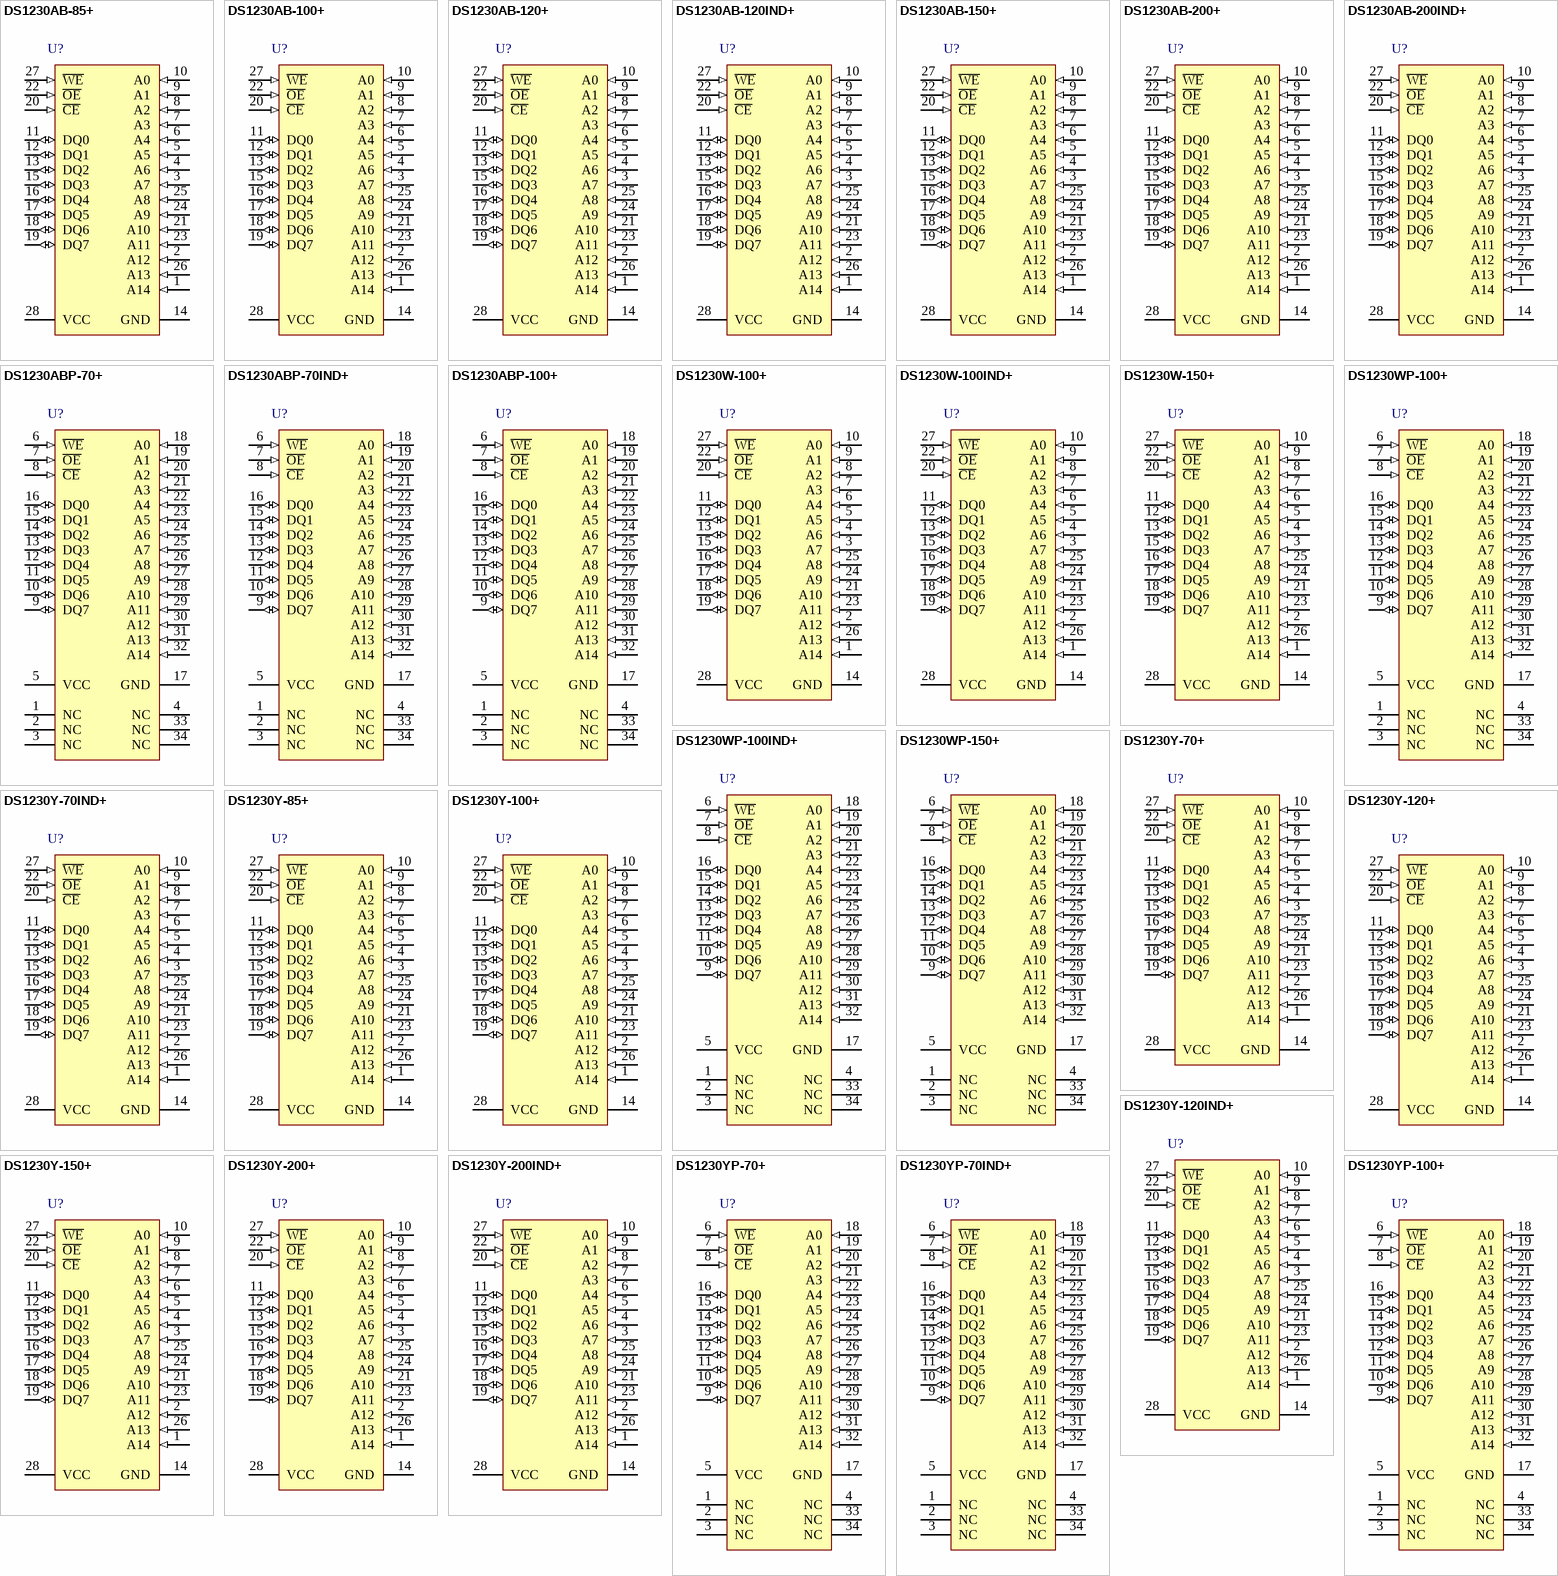
[diagram p3: symbols DS1230AB-85+ to DS1230YP-100+]

## DS1230AB-85+
designator U?
256Kb Nonvolatile SRAM, +/-5% VCC Operating range, 28-pin EDIP, 0° to + 70° C, Pb-Free; DatasheetVersion: 1/11/2010; PackageVersion: revA, Feb-2003; PackageReference: MDT28+3; PackageDescription: 28-Pin Encapsulated Dual-In-Line Module, 2.54 mm Pitch, EDIP, 740-mil extended, Pb-Free; ComponentLink1Description: Manufacturer URL; ComponentLink1URL: www.maxim-ic.com; ComponentLink2Description: Datasheet; ComponentLink2URL: http://datasheets.maxim-ic.com/en/ds/DS1230AB-DS1230Y.pdf
footprint MDT28+3 (DIP; 28 Rectangular Pins, Body 38.2x18.5mm, Row Space 15.24mm, Pitch 2.54mm)
pins: 1 A14 (in), 2 A12 (in), 3 A7 (in), 4 A6 (in), 5 A5 (in), 6 A4 (in), 7 A3 (in), 8 A2 (in), 9 A1 (in), 10 A0 (in), 11 DQ0 (io), 12 DQ1 (io), 13 DQ2 (io), 14 GND (power), 15 DQ3 (io), 16 DQ4 (io), 17 DQ5 (io), 18 DQ6 (io), 19 DQ7 (io), 20 ~{CE} (in), 21 A10 (in), 22 ~{OE} (in), 23 A11 (in), 24 A9 (in), 25 A8 (in), 26 A13 (in), 27 ~{WE} (in), 28 VCC (power)

## DS1230AB-100+
designator U?
256Kb Nonvolatile SRAM, +/-5% VCC Operating range, 28-pin EDIP, 0° to + 70° C, Pb-Free; DatasheetVersion: 1/11/2010; PackageVersion: revA, Feb-2003; PackageReference: MDT28+3; PackageDescription: 28-Pin Encapsulated Dual-In-Line Module, 2.54 mm Pitch, EDIP, 740-mil extended, Pb-Free; ComponentLink1Description: Manufacturer URL; ComponentLink1URL: www.maxim-ic.com; ComponentLink2Description: Datasheet; ComponentLink2URL: http://datasheets.maxim-ic.com/en/ds/DS1230AB-DS1230Y.pdf
footprint MDT28+3 (DIP; 28 Rectangular Pins, Body 38.2x18.5mm, Row Space 15.24mm, Pitch 2.54mm)
pins: 1 A14 (in), 2 A12 (in), 3 A7 (in), 4 A6 (in), 5 A5 (in), 6 A4 (in), 7 A3 (in), 8 A2 (in), 9 A1 (in), 10 A0 (in), 11 DQ0 (io), 12 DQ1 (io), 13 DQ2 (io), 14 GND (power), 15 DQ3 (io), 16 DQ4 (io), 17 DQ5 (io), 18 DQ6 (io), 19 DQ7 (io), 20 ~{CE} (in), 21 A10 (in), 22 ~{OE} (in), 23 A11 (in), 24 A9 (in), 25 A8 (in), 26 A13 (in), 27 ~{WE} (in), 28 VCC (power)

## DS1230AB-120+
designator U?
256Kb Nonvolatile SRAM, +/-5% VCC Operating range, 28-pin EDIP, 0° to + 70° C, Pb-Free; DatasheetVersion: 1/11/2010; PackageVersion: revA, Feb-2003; PackageReference: MDT28+3; PackageDescription: 28-Pin Encapsulated Dual-In-Line Module, 2.54 mm Pitch, EDIP, 740-mil extended, Pb-Free; ComponentLink1Description: Manufacturer URL; ComponentLink1URL: www.maxim-ic.com; ComponentLink2Description: Datasheet; ComponentLink2URL: http://datasheets.maxim-ic.com/en/ds/DS1230AB-DS1230Y.pdf
footprint MDT28+3 (DIP; 28 Rectangular Pins, Body 38.2x18.5mm, Row Space 15.24mm, Pitch 2.54mm)
pins: 1 A14 (in), 2 A12 (in), 3 A7 (in), 4 A6 (in), 5 A5 (in), 6 A4 (in), 7 A3 (in), 8 A2 (in), 9 A1 (in), 10 A0 (in), 11 DQ0 (io), 12 DQ1 (io), 13 DQ2 (io), 14 GND (power), 15 DQ3 (io), 16 DQ4 (io), 17 DQ5 (io), 18 DQ6 (io), 19 DQ7 (io), 20 ~{CE} (in), 21 A10 (in), 22 ~{OE} (in), 23 A11 (in), 24 A9 (in), 25 A8 (in), 26 A13 (in), 27 ~{WE} (in), 28 VCC (power)

## DS1230AB-120IND+
designator U?
256Kb Nonvolatile SRAM, +/-5% VCC Operating range, 28-pin EDIP, -40° to + 85° C, Pb-Free; DatasheetVersion: 1/11/2010; PackageVersion: revA, Feb-2003; PackageReference: MDT28+3; PackageDescription: 28-Pin Encapsulated Dual-In-Line Module, 2.54 mm Pitch, EDIP, 740-mil extended, Pb-Free; ComponentLink1Description: Manufacturer URL; ComponentLink1URL: www.maxim-ic.com; ComponentLink2Description: Datasheet; ComponentLink2URL: http://datasheets.maxim-ic.com/en/ds/DS1230AB-DS1230Y.pdf
footprint MDT28+3 (DIP; 28 Rectangular Pins, Body 38.2x18.5mm, Row Space 15.24mm, Pitch 2.54mm)
pins: 1 A14 (in), 2 A12 (in), 3 A7 (in), 4 A6 (in), 5 A5 (in), 6 A4 (in), 7 A3 (in), 8 A2 (in), 9 A1 (in), 10 A0 (in), 11 DQ0 (io), 12 DQ1 (io), 13 DQ2 (io), 14 GND (power), 15 DQ3 (io), 16 DQ4 (io), 17 DQ5 (io), 18 DQ6 (io), 19 DQ7 (io), 20 ~{CE} (in), 21 A10 (in), 22 ~{OE} (in), 23 A11 (in), 24 A9 (in), 25 A8 (in), 26 A13 (in), 27 ~{WE} (in), 28 VCC (power)

## DS1230AB-150+
designator U?
256Kb Nonvolatile SRAM, +/-5% VCC Operating range, 28-pin EDIP, 0° to + 70° C, Pb-Free; DatasheetVersion: 1/11/2010; PackageVersion: revA, Feb-2003; PackageReference: MDT28+3; PackageDescription: 28-Pin Encapsulated Dual-In-Line Module, 2.54 mm Pitch, EDIP, 740-mil extended, Pb-Free; ComponentLink1Description: Manufacturer URL; ComponentLink1URL: www.maxim-ic.com; ComponentLink2Description: Datasheet; ComponentLink2URL: http://datasheets.maxim-ic.com/en/ds/DS1230AB-DS1230Y.pdf
footprint MDT28+3 (DIP; 28 Rectangular Pins, Body 38.2x18.5mm, Row Space 15.24mm, Pitch 2.54mm)
pins: 1 A14 (in), 2 A12 (in), 3 A7 (in), 4 A6 (in), 5 A5 (in), 6 A4 (in), 7 A3 (in), 8 A2 (in), 9 A1 (in), 10 A0 (in), 11 DQ0 (io), 12 DQ1 (io), 13 DQ2 (io), 14 GND (power), 15 DQ3 (io), 16 DQ4 (io), 17 DQ5 (io), 18 DQ6 (io), 19 DQ7 (io), 20 ~{CE} (in), 21 A10 (in), 22 ~{OE} (in), 23 A11 (in), 24 A9 (in), 25 A8 (in), 26 A13 (in), 27 ~{WE} (in), 28 VCC (power)

## DS1230AB-200+
designator U?
256Kb Nonvolatile SRAM, +/-5% VCC Operating range, 28-pin EDIP, 0° to + 70° C, Pb-Free; DatasheetVersion: 1/11/2010; PackageVersion: revA, Feb-2003; PackageReference: MDT28+3; PackageDescription: 28-Pin Encapsulated Dual-In-Line Module, 2.54 mm Pitch, EDIP, 740-mil extended, Pb-Free; ComponentLink1Description: Manufacturer URL; ComponentLink1URL: www.maxim-ic.com; ComponentLink2Description: Datasheet; ComponentLink2URL: http://datasheets.maxim-ic.com/en/ds/DS1230AB-DS1230Y.pdf
footprint MDT28+3 (DIP; 28 Rectangular Pins, Body 38.2x18.5mm, Row Space 15.24mm, Pitch 2.54mm)
pins: 1 A14 (in), 2 A12 (in), 3 A7 (in), 4 A6 (in), 5 A5 (in), 6 A4 (in), 7 A3 (in), 8 A2 (in), 9 A1 (in), 10 A0 (in), 11 DQ0 (io), 12 DQ1 (io), 13 DQ2 (io), 14 GND (power), 15 DQ3 (io), 16 DQ4 (io), 17 DQ5 (io), 18 DQ6 (io), 19 DQ7 (io), 20 ~{CE} (in), 21 A10 (in), 22 ~{OE} (in), 23 A11 (in), 24 A9 (in), 25 A8 (in), 26 A13 (in), 27 ~{WE} (in), 28 VCC (power)

## DS1230AB-200IND+
designator U?
256Kb Nonvolatile SRAM, +/-5% VCC Operating range, 28-pin EDIP, -40° to + 85° C, Pb-Free; DatasheetVersion: 1/11/2010; PackageVersion: revA, Feb-2003; PackageReference: MDT28+3; PackageDescription: 28-Pin Encapsulated Dual-In-Line Module, 2.54 mm Pitch, EDIP, 740-mil extended, Pb-Free; ComponentLink1Description: Manufacturer URL; ComponentLink1URL: www.maxim-ic.com; ComponentLink2Description: Datasheet; ComponentLink2URL: http://datasheets.maxim-ic.com/en/ds/DS1230AB-DS1230Y.pdf
footprint MDT28+3 (DIP; 28 Rectangular Pins, Body 38.2x18.5mm, Row Space 15.24mm, Pitch 2.54mm)
pins: 1 A14 (in), 2 A12 (in), 3 A7 (in), 4 A6 (in), 5 A5 (in), 6 A4 (in), 7 A3 (in), 8 A2 (in), 9 A1 (in), 10 A0 (in), 11 DQ0 (io), 12 DQ1 (io), 13 DQ2 (io), 14 GND (power), 15 DQ3 (io), 16 DQ4 (io), 17 DQ5 (io), 18 DQ6 (io), 19 DQ7 (io), 20 ~{CE} (in), 21 A10 (in), 22 ~{OE} (in), 23 A11 (in), 24 A9 (in), 25 A8 (in), 26 A13 (in), 27 ~{WE} (in), 28 VCC (power)

## DS1230ABP-70+
designator U?
256Kb Nonvolatile SRAM, +/-5% VCC Operating range, 34-pin PCAP, 0° to + 70° C, Pb-Free; DatasheetVersion: 1/11/2010; PackageVersion: revA, 2004; PackageReference: PC2+4; PackageDescription: 34-Pin PowerCap 0.990 Module with Cap, Pb-Free; ComponentLink1Description: Manufacturer URL; ComponentLink1URL: www.maxim-ic.com; ComponentLink2Description: Datasheet; ComponentLink2URL: http://datasheets.maxim-ic.com/en/ds/DS1230AB-DS1230Y.pdf
footprint PC2+4 (PowerCap Module with Cap, 34-Leads, Body 24.7 x.25.3mm, Pitch 1.27mm)
pins: 1 NC, 2 NC, 3 NC, 4 NC, 5 VCC (power), 6 ~{WE} (in), 7 ~{OE} (in), 8 ~{CE} (in), 9 DQ7 (io), 10 DQ6 (io), 11 DQ5 (io), 12 DQ4 (io), 13 DQ3 (io), 14 DQ2 (io), 15 DQ1 (io), 16 DQ0 (io), 17 GND (power), 18 A0 (in), 19 A1 (in), 20 A2 (in), 21 A3 (in), 22 A4 (in), 23 A5 (in), 24 A6 (in), 25 A7 (in), 26 A8 (in), 27 A9 (in), 28 A10 (in), 29 A11 (in), 30 A12 (in), 31 A13 (in), 32 A14 (in), 33 NC, 34 NC

## DS1230ABP-70IND+
designator U?
256Kb Nonvolatile SRAM, +/-5% VCC Operating range, 34-pin PCAP, -40° to + 85° C, Pb-Free; DatasheetVersion: 1/11/2010; PackageVersion: revA, 2004; PackageReference: PC2+4; PackageDescription: 34-Pin PowerCap 0.990 Module with Cap, Pb-Free; ComponentLink1Description: Manufacturer URL; ComponentLink1URL: www.maxim-ic.com; ComponentLink2Description: Datasheet; ComponentLink2URL: http://datasheets.maxim-ic.com/en/ds/DS1230AB-DS1230Y.pdf
footprint PC2+4 (PowerCap Module with Cap, 34-Leads, Body 24.7 x.25.3mm, Pitch 1.27mm)
pins: 1 NC, 2 NC, 3 NC, 4 NC, 5 VCC (power), 6 ~{WE} (in), 7 ~{OE} (in), 8 ~{CE} (in), 9 DQ7 (io), 10 DQ6 (io), 11 DQ5 (io), 12 DQ4 (io), 13 DQ3 (io), 14 DQ2 (io), 15 DQ1 (io), 16 DQ0 (io), 17 GND (power), 18 A0 (in), 19 A1 (in), 20 A2 (in), 21 A3 (in), 22 A4 (in), 23 A5 (in), 24 A6 (in), 25 A7 (in), 26 A8 (in), 27 A9 (in), 28 A10 (in), 29 A11 (in), 30 A12 (in), 31 A13 (in), 32 A14 (in), 33 NC, 34 NC

## DS1230ABP-100+
designator U?
256Kb Nonvolatile SRAM, +/-5% VCC Operating range, 34-pin PCAP, 0° to + 70° C, Pb-Free; DatasheetVersion: 1/11/2010; PackageVersion: revA, 2004; PackageReference: PC2+4; PackageDescription: 34-Pin PowerCap 0.990 Module with Cap, Pb-Free; ComponentLink1Description: Manufacturer URL; ComponentLink1URL: www.maxim-ic.com; ComponentLink2Description: Datasheet; ComponentLink2URL: http://datasheets.maxim-ic.com/en/ds/DS1230AB-DS1230Y.pdf
footprint PC2+4 (PowerCap Module with Cap, 34-Leads, Body 24.7 x.25.3mm, Pitch 1.27mm)
pins: 1 NC, 2 NC, 3 NC, 4 NC, 5 VCC (power), 6 ~{WE} (in), 7 ~{OE} (in), 8 ~{CE} (in), 9 DQ7 (io), 10 DQ6 (io), 11 DQ5 (io), 12 DQ4 (io), 13 DQ3 (io), 14 DQ2 (io), 15 DQ1 (io), 16 DQ0 (io), 17 GND (power), 18 A0 (in), 19 A1 (in), 20 A2 (in), 21 A3 (in), 22 A4 (in), 23 A5 (in), 24 A6 (in), 25 A7 (in), 26 A8 (in), 27 A9 (in), 28 A10 (in), 29 A11 (in), 30 A12 (in), 31 A13 (in), 32 A14 (in), 33 NC, 34 NC

## DS1230W-100+
designator U?
256Kb 3.3V Nonvolatile SRAM, 28-pin EDIP, 0° to + 70° C, Pb-Free; DatasheetVersion: 1/11/2010; PackageVersion: revA, Feb-2003; PackageReference: MDT28+3; PackageDescription: 28-Pin Encapsulated Dual-In-Line Module, 2.54 mm Pitch, EDIP, 740-mil extended, Pb-Free; ComponentLink1Description: Manufacturer URL; ComponentLink1URL: www.maxim-ic.com; ComponentLink2Description: Datasheet; ComponentLink2URL: http://datasheets.maxim-ic.com/en/ds/DS1230W.pdf
footprint MDT28+3 (DIP; 28 Rectangular Pins, Body 38.2x18.5mm, Row Space 15.24mm, Pitch 2.54mm)
pins: 1 A14 (in), 2 A12 (in), 3 A7 (in), 4 A6 (in), 5 A5 (in), 6 A4 (in), 7 A3 (in), 8 A2 (in), 9 A1 (in), 10 A0 (in), 11 DQ0 (io), 12 DQ1 (io), 13 DQ2 (io), 14 GND (power), 15 DQ3 (io), 16 DQ4 (io), 17 DQ5 (io), 18 DQ6 (io), 19 DQ7 (io), 20 ~{CE} (in), 21 A10 (in), 22 ~{OE} (in), 23 A11 (in), 24 A9 (in), 25 A8 (in), 26 A13 (in), 27 ~{WE} (in), 28 VCC (power)

## DS1230W-100IND+
designator U?
256Kb 3.3V Nonvolatile SRAM, 28-pin EDIP, -40° to + 85° C, Pb-Free; DatasheetVersion: 1/11/2010; PackageVersion: revA, Feb-2003; PackageReference: MDT28+3; PackageDescription: 28-Pin Encapsulated Dual-In-Line Module, 2.54 mm Pitch, EDIP, 740-mil extended, Pb-Free; ComponentLink1Description: Manufacturer URL; ComponentLink1URL: www.maxim-ic.com; ComponentLink2Description: Datasheet; ComponentLink2URL: http://datasheets.maxim-ic.com/en/ds/DS1230W.pdf
footprint MDT28+3 (DIP; 28 Rectangular Pins, Body 38.2x18.5mm, Row Space 15.24mm, Pitch 2.54mm)
pins: 1 A14 (in), 2 A12 (in), 3 A7 (in), 4 A6 (in), 5 A5 (in), 6 A4 (in), 7 A3 (in), 8 A2 (in), 9 A1 (in), 10 A0 (in), 11 DQ0 (io), 12 DQ1 (io), 13 DQ2 (io), 14 GND (power), 15 DQ3 (io), 16 DQ4 (io), 17 DQ5 (io), 18 DQ6 (io), 19 DQ7 (io), 20 ~{CE} (in), 21 A10 (in), 22 ~{OE} (in), 23 A11 (in), 24 A9 (in), 25 A8 (in), 26 A13 (in), 27 ~{WE} (in), 28 VCC (power)

## DS1230W-150+
designator U?
256Kb 3.3V Nonvolatile SRAM, 28-pin EDIP, 0° to + 70° C, Pb-Free; DatasheetVersion: 1/11/2010; PackageVersion: revA, Feb-2003; PackageReference: MDT28+3; PackageDescription: 28-Pin Encapsulated Dual-In-Line Module, 2.54 mm Pitch, EDIP, 740-mil extended, Pb-Free; ComponentLink1Description: Manufacturer URL; ComponentLink1URL: www.maxim-ic.com; ComponentLink2Description: Datasheet; ComponentLink2URL: http://datasheets.maxim-ic.com/en/ds/DS1230W.pdf
footprint MDT28+3 (DIP; 28 Rectangular Pins, Body 38.2x18.5mm, Row Space 15.24mm, Pitch 2.54mm)
pins: 1 A14 (in), 2 A12 (in), 3 A7 (in), 4 A6 (in), 5 A5 (in), 6 A4 (in), 7 A3 (in), 8 A2 (in), 9 A1 (in), 10 A0 (in), 11 DQ0 (io), 12 DQ1 (io), 13 DQ2 (io), 14 GND (power), 15 DQ3 (io), 16 DQ4 (io), 17 DQ5 (io), 18 DQ6 (io), 19 DQ7 (io), 20 ~{CE} (in), 21 A10 (in), 22 ~{OE} (in), 23 A11 (in), 24 A9 (in), 25 A8 (in), 26 A13 (in), 27 ~{WE} (in), 28 VCC (power)

## DS1230WP-100+
designator U?
256Kb 3.3V Nonvolatile SRAM, 34-pin PCAP, 0° to + 70° C, Pb-Free; DatasheetVersion: 1/11/2010; PackageVersion: revA, 2004; PackageReference: PC2+4; PackageDescription: 34-Pin PowerCap 0.990 Module with Cap, Pb-Free; ComponentLink1Description: Manufacturer URL; ComponentLink1URL: www.maxim-ic.com; ComponentLink2Description: Datasheet; ComponentLink2URL: http://datasheets.maxim-ic.com/en/ds/DS1230W.pdf
footprint PC2+4 (PowerCap Module with Cap, 34-Leads, Body 24.7 x.25.3mm, Pitch 1.27mm)
pins: 1 NC, 2 NC, 3 NC, 4 NC, 5 VCC (power), 6 ~{WE} (in), 7 ~{OE} (in), 8 ~{CE} (in), 9 DQ7 (io), 10 DQ6 (io), 11 DQ5 (io), 12 DQ4 (io), 13 DQ3 (io), 14 DQ2 (io), 15 DQ1 (io), 16 DQ0 (io), 17 GND (power), 18 A0 (in), 19 A1 (in), 20 A2 (in), 21 A3 (in), 22 A4 (in), 23 A5 (in), 24 A6 (in), 25 A7 (in), 26 A8 (in), 27 A9 (in), 28 A10 (in), 29 A11 (in), 30 A12 (in), 31 A13 (in), 32 A14 (in), 33 NC, 34 NC

## DS1230WP-100IND+
designator U?
256Kb 3.3V Nonvolatile SRAM, 34-pin PCAP, -40° to + 85° C, Pb-Free; DatasheetVersion: 1/11/2010; PackageVersion: revA, 2004; PackageReference: PC2+4; PackageDescription: 34-Pin PowerCap 0.990 Module with Cap, Pb-Free; ComponentLink1Description: Manufacturer URL; ComponentLink1URL: www.maxim-ic.com; ComponentLink2Description: Datasheet; ComponentLink2URL: http://datasheets.maxim-ic.com/en/ds/DS1230W.pdf
footprint PC2+4 (PowerCap Module with Cap, 34-Leads, Body 24.7 x.25.3mm, Pitch 1.27mm)
pins: 1 NC, 2 NC, 3 NC, 4 NC, 5 VCC (power), 6 ~{WE} (in), 7 ~{OE} (in), 8 ~{CE} (in), 9 DQ7 (io), 10 DQ6 (io), 11 DQ5 (io), 12 DQ4 (io), 13 DQ3 (io), 14 DQ2 (io), 15 DQ1 (io), 16 DQ0 (io), 17 GND (power), 18 A0 (in), 19 A1 (in), 20 A2 (in), 21 A3 (in), 22 A4 (in), 23 A5 (in), 24 A6 (in), 25 A7 (in), 26 A8 (in), 27 A9 (in), 28 A10 (in), 29 A11 (in), 30 A12 (in), 31 A13 (in), 32 A14 (in), 33 NC, 34 NC

## DS1230WP-150+
designator U?
256Kb 3.3V Nonvolatile SRAM, 34-pin PCAP, 0° to + 70° C, Pb-Free; DatasheetVersion: 1/11/2010; PackageVersion: revA, 2004; PackageReference: PC2+4; PackageDescription: 34-Pin PowerCap 0.990 Module with Cap, Pb-Free; ComponentLink1Description: Manufacturer URL; ComponentLink1URL: www.maxim-ic.com; ComponentLink2Description: Datasheet; ComponentLink2URL: http://datasheets.maxim-ic.com/en/ds/DS1230W.pdf
footprint PC2+4 (PowerCap Module with Cap, 34-Leads, Body 24.7 x.25.3mm, Pitch 1.27mm)
pins: 1 NC, 2 NC, 3 NC, 4 NC, 5 VCC (power), 6 ~{WE} (in), 7 ~{OE} (in), 8 ~{CE} (in), 9 DQ7 (io), 10 DQ6 (io), 11 DQ5 (io), 12 DQ4 (io), 13 DQ3 (io), 14 DQ2 (io), 15 DQ1 (io), 16 DQ0 (io), 17 GND (power), 18 A0 (in), 19 A1 (in), 20 A2 (in), 21 A3 (in), 22 A4 (in), 23 A5 (in), 24 A6 (in), 25 A7 (in), 26 A8 (in), 27 A9 (in), 28 A10 (in), 29 A11 (in), 30 A12 (in), 31 A13 (in), 32 A14 (in), 33 NC, 34 NC

## DS1230Y-70+
designator U?
256Kb Nonvolatile SRAM, +/-10% VCC Operating range, 28-pin EDIP, 0° to + 70° C, Pb-Free; DatasheetVersion: 1/11/2010; PackageVersion: revA, Feb-2003; PackageReference: MDT28+3; PackageDescription: 28-Pin Encapsulated Dual-In-Line Module, 2.54 mm Pitch, EDIP, 740-mil extended, Pb-Free; ComponentLink1Description: Manufacturer URL; ComponentLink1URL: www.maxim-ic.com; ComponentLink2Description: Datasheet; ComponentLink2URL: http://datasheets.maxim-ic.com/en/ds/DS1230AB-DS1230Y.pdf
footprint MDT28+3 (DIP; 28 Rectangular Pins, Body 38.2x18.5mm, Row Space 15.24mm, Pitch 2.54mm)
pins: 1 A14 (in), 2 A12 (in), 3 A7 (in), 4 A6 (in), 5 A5 (in), 6 A4 (in), 7 A3 (in), 8 A2 (in), 9 A1 (in), 10 A0 (in), 11 DQ0 (io), 12 DQ1 (io), 13 DQ2 (io), 14 GND (power), 15 DQ3 (io), 16 DQ4 (io), 17 DQ5 (io), 18 DQ6 (io), 19 DQ7 (io), 20 ~{CE} (in), 21 A10 (in), 22 ~{OE} (in), 23 A11 (in), 24 A9 (in), 25 A8 (in), 26 A13 (in), 27 ~{WE} (in), 28 VCC (power)

## DS1230Y-70IND+
designator U?
256Kb Nonvolatile SRAM, +/-10% VCC Operating range, 28-pin EDIP, -40° to + 85° C, Pb-Free; DatasheetVersion: 1/11/2010; PackageVersion: revA, Feb-2003; PackageReference: MDT28+3; PackageDescription: 28-Pin Encapsulated Dual-In-Line Module, 2.54 mm Pitch, EDIP, 740-mil extended, Pb-Free; ComponentLink1Description: Manufacturer URL; ComponentLink1URL: www.maxim-ic.com; ComponentLink2Description: Datasheet; ComponentLink2URL: http://datasheets.maxim-ic.com/en/ds/DS1230AB-DS1230Y.pdf
footprint MDT28+3 (DIP; 28 Rectangular Pins, Body 38.2x18.5mm, Row Space 15.24mm, Pitch 2.54mm)
pins: 1 A14 (in), 2 A12 (in), 3 A7 (in), 4 A6 (in), 5 A5 (in), 6 A4 (in), 7 A3 (in), 8 A2 (in), 9 A1 (in), 10 A0 (in), 11 DQ0 (io), 12 DQ1 (io), 13 DQ2 (io), 14 GND (power), 15 DQ3 (io), 16 DQ4 (io), 17 DQ5 (io), 18 DQ6 (io), 19 DQ7 (io), 20 ~{CE} (in), 21 A10 (in), 22 ~{OE} (in), 23 A11 (in), 24 A9 (in), 25 A8 (in), 26 A13 (in), 27 ~{WE} (in), 28 VCC (power)

## DS1230Y-85+
designator U?
256Kb Nonvolatile SRAM, +/-10% VCC Operating range, 28-pin EDIP, 0° to + 70° C, Pb-Free; DatasheetVersion: 1/11/2010; PackageVersion: revA, Feb-2003; PackageReference: MDT28+3; PackageDescription: 28-Pin Encapsulated Dual-In-Line Module, 2.54 mm Pitch, EDIP, 740-mil extended, Pb-Free; ComponentLink1Description: Manufacturer URL; ComponentLink1URL: www.maxim-ic.com; ComponentLink2Description: Datasheet; ComponentLink2URL: http://datasheets.maxim-ic.com/en/ds/DS1230AB-DS1230Y.pdf
footprint MDT28+3 (DIP; 28 Rectangular Pins, Body 38.2x18.5mm, Row Space 15.24mm, Pitch 2.54mm)
pins: 1 A14 (in), 2 A12 (in), 3 A7 (in), 4 A6 (in), 5 A5 (in), 6 A4 (in), 7 A3 (in), 8 A2 (in), 9 A1 (in), 10 A0 (in), 11 DQ0 (io), 12 DQ1 (io), 13 DQ2 (io), 14 GND (power), 15 DQ3 (io), 16 DQ4 (io), 17 DQ5 (io), 18 DQ6 (io), 19 DQ7 (io), 20 ~{CE} (in), 21 A10 (in), 22 ~{OE} (in), 23 A11 (in), 24 A9 (in), 25 A8 (in), 26 A13 (in), 27 ~{WE} (in), 28 VCC (power)